# EAGLE library part DP_EDP_ADAPTER_DP1RD20JQ2R400 (library DP_eDP_Adapter_v2.0)
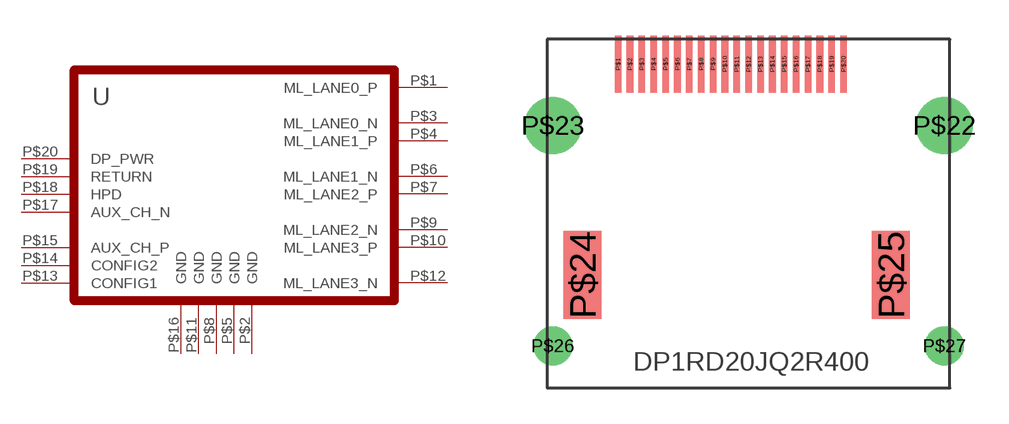
[diagram p1: symbol with the pads of DP_EDP_ADAPTER_DP_REVERSE_JAE; footprint DP_EDP_ADAPTER_DP_REVERSE_JAE]

Designator prefix -

## DP_EDP_ADAPTER_DP1RD20JQ2R400  [DP_EDP_ADAPTER_DP_REVERSE_JAE]
P$1  ML_LANE0_P
P$2  GND
P$3  ML_LANE0_N
P$4  ML_LANE1_P
P$5  GND
P$6  ML_LANE1_N
P$7  ML_LANE2_P
P$8  GND
P$9  ML_LANE2_N
P$10  ML_LANE3_P
P$11  GND
P$12  ML_LANE3_N
P$13  CONFIG1
P$14  CONFIG2
P$15  AUX_CH_P
P$16  GND
P$17  AUX_CH_N
P$18  HPD
P$19  RETURN
P$20  DP_PWR

## DP_EDP_ADAPTER_DP1RD20JQ2R400_SINK  [DP_EDP_ADAPTER_DP_REVERSE_JAE]
P$1  ML_LANE3_N
P$2  GND
P$3  ML_LANE3_P
P$4  ML_LANE2_N
P$5  GND
P$6  ML_LANE2_P
P$7  ML_LANE1_N
P$8  GND
P$9  ML_LANE1_P
P$10  ML_LANE0_N
P$11  GND
P$12  ML_LANE0_P
P$13  CONFIG1
P$14  CONFIG2
P$15  AUX_CH_P
P$16  GND
P$17  AUX_CH_N
P$18  HPD
P$19  RETURN
P$20  DP_PWR

## Footprint DP_EDP_ADAPTER_DP_REVERSE_JAE (pad centres in mm)
smd 0.28 x 2.4: P$1 -5.5,0; P$2 -5,0; P$3 -4.5,0; P$4 -4,0; P$5 -3.5,0; P$6 -3,0; P$7 -2.5,0; P$8 -2,0; P$9 -1.5,0; P$10 -1,0; P$11 -0.5,0; P$12 0,0; P$13 0.5,0; P$14 1,0; P$15 1.5,0; P$16 2,0; P$17 2.5,0; P$18 3,0; P$19 3.5,0; P$20 4,0
drill 1.6: P$22 8.25,-2.6; P$23 -8.25,-2.6
smd 1.6 x 3.7: P$24 -7,-8.89; P$25 6,-8.89
drill 1.1: P$26 -8.25,-11.88; P$27 8.25,-11.88